# EAGLE library part HIROSE_12PIN_FEMALE (library SKAARHOJ)
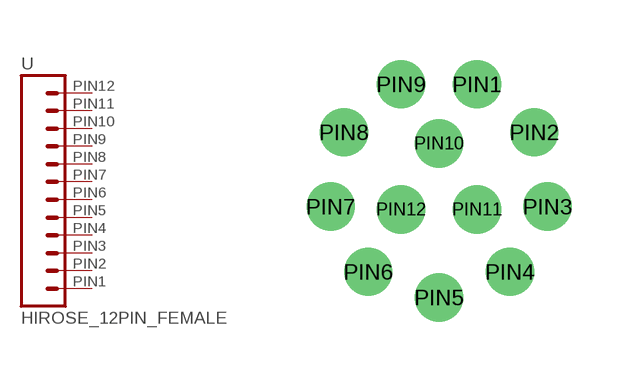
[diagram p47: symbol with the pads of HIROSE_12PIN_RECEP; footprint HIROSE_12PIN_RECEP]

Designator prefix -

## HIROSE_12PIN_FEMALE  [HIROSE_12PIN_RECEP]
PIN1  1  pas
PIN2  2  pas
PIN3  3  pas
PIN4  4  pas
PIN5  5  pas
PIN6  6  pas
PIN7  7  pas
PIN8  8  pas
PIN9  9  pas
PIN10  10  pas
PIN11  11  pas
PIN12  12  pas

## Footprint HIROSE_12PIN_RECEP (pad centres in mm)
drill 0.7: PIN1 0.95,2.58; PIN2 2.38,1.38; PIN3 2.71,-0.48; PIN4 1.77,-2.11; PIN5 0,-2.75; PIN6 -1.77,-2.11; PIN7 -2.71,-0.48; PIN8 -2.38,1.38; PIN9 -0.95,2.58; PIN10 0,1.1; PIN11 0.95,-0.55; PIN12 -0.95,-0.55